# Altium schematic symbol library SnapEDAsch.SchLib: 1 symbol
Pins are listed as number, name and electrical type; pins without a type are passive.

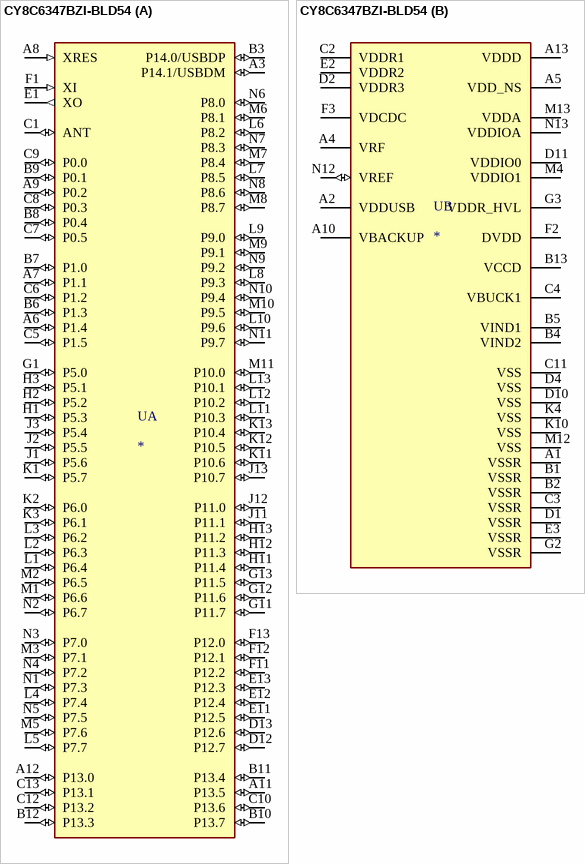
[diagram p0: symbol CY8C6347BZI-BLD54]

## CY8C6347BZI-BLD54
designator U
PSoC 63 MCU with Bluetooth LE, 124-BGA; MF: Cypress Semiconductor; MP: CY8C6347BZI-BLD54; SnapEDA_Link: https://www.snapeda.com/parts/CY8C6347BZI-BLD54/Cypress%20Semiconductor/view-part/2816112/?ref=snap; Value: *; Availability: Unavailable; Price: None; Package: None
footprint BGAS124C65P13X13_900X900X100
part A pins: A3 P14.1/USBDM (io), A6 P1.4 (io), A7 P1.1 (io), A8 XRES (in), A9 P0.2 (io), A11 P13.5 (io), A12 P13.0 (io), B3 P14.0/USBDP (io), B6 P1.3 (io), B7 P1.0 (io), B8 P0.4 (io), B9 P0.1 (io), B10 P13.7 (io), B11 P13.4 (io), B12 P13.3 (io), C1 ANT (io), C5 P1.5 (io), C6 P1.2 (io), C7 P0.5 (io), C8 P0.3 (io), C9 P0.0 (io), C10 P13.6 (io), C12 P13.2 (io), C13 P13.1 (io), D12 P12.7 (io), D13 P12.6 (io), E1 XO (out), E11 P12.5 (io), E12 P12.4 (io), E13 P12.3 (io), F1 XI (in), F11 P12.2 (io), F12 P12.1 (io), F13 P12.0 (io), G1 P5.0 (io), G11 P11.7 (io), G12 P11.6 (io), G13 P11.5 (io), H1 P5.3 (io), H2 P5.2 (io), H3 P5.1 (io), H11 P11.4 (io), H12 P11.3 (io), H13 P11.2 (io), J1 P5.6 (io), J2 P5.5 (io), J3 P5.4 (io), J11 P11.1 (io), J12 P11.0 (io), J13 P10.7 (io), K1 P5.7 (io), K2 P6.0 (io), K3 P6.1 (io), K11 P10.6 (io), K12 P10.5 (io), K13 P10.4 (io), L1 P6.4 (io), L2 P6.3 (io), L3 P6.2 (io), L4 P7.4 (io), L5 P7.7 (io), L6 P8.2 (io), L7 P8.5 (io), L8 P9.3 (io), L9 P9.0 (io), L10 P9.6 (io), L11 P10.3 (io), L12 P10.2 (io), L13 P10.1 (io), M1 P6.6 (io), M2 P6.5 (io), M3 P7.1 (io), M5 P7.6 (io), M6 P8.1 (io), M7 P8.4 (io), M8 P8.7 (io), M9 P9.1 (io), M10 P9.5 (io), M11 P10.0 (io), N1 P7.3 (io), N2 P6.7 (io), N3 P7.0 (io), N4 P7.2 (io), N5 P7.5 (io), N6 P8.0 (io), N7 P8.3 (io), N8 P8.6 (io), N9 P9.2 (io), N10 P9.4 (io), N11 P9.7 (io)
part B pins: A1 VSSR (power), A2 VDDUSB (power), A4 VRF (power), A5 VDD_NS (power), A10 VBACKUP (power), A13 VDDD (power), B1 VSSR (power), B2 VSSR (power), B4 VIND2 (power), B5 VIND1 (power), B13 VCCD (power), C2 VDDR1 (power), C3 VSSR (power), C4 VBUCK1 (power), C11 VSS (power), D1 VSSR (power), D2 VDDR3 (power), D4 VSS (power), D10 VSS (power), D11 VDDIO0 (power), E2 VDDR2 (power), E3 VSSR (power), F2 DVDD (power), F3 VDCDC (power), G2 VSSR (power), G3 VDDR_HVL (power), K4 VSS (power), K10 VSS (power), M4 VDDIO1 (power), M12 VSS (power), M13 VDDA (power), N12 VREF (io), N13 VDDIOA (power)